# Altium schematic symbol library DIODE_TVS_BI.Schlib: 1 symbol
Pins are listed as number, name and electrical type; pins without a type are passive.

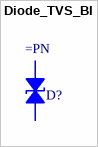
[diagram p0: symbol Diode_TVS_BI]

## Diode_TVS_BI
designator D?
Bidirectional TVS Diode
pins: 1, 2